# Altium schematic symbol library MAX1247BEE.Schlib: 1 symbol
Pins are listed as number, name and electrical type; pins without a type are passive.

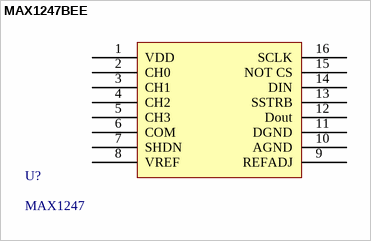
[diagram p0: symbol MAX1247BEE]

## MAX1247BEE
designator U?, comment MAX1247
pins: 1 VDD, 2 CH0, 3 CH1, 4 CH2, 5 CH3, 6 COM, 7 SHDN, 8 VREF, 9 REFADJ, 10 AGND, 11 DGND, 12 Dout, 13 SSTRB, 14 DIN, 15 NOT CS, 16 SCLK